# Altium schematic symbol library Resistor_0805.SchLib: 4 symbols
Pins are listed as number, name and electrical type; pins without a type are passive.

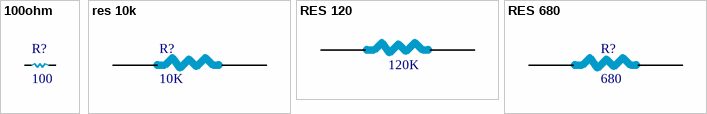
[diagram p0: symbols 100ohm to RES 680]

## 100ohm
designator R?, comment 100
RES SMD 100 OHM 1% 1/8W 0805; Brand: Yageo; Categories: Resistors; Resistance: 100 Ohms; Power Rating: 125 mW (1/8 W); Temperature Coefficient: 50 PPM / C; Voltage Rating: 150 V; Unit Weight: 0.000194 oz; Power (Watts): 0.25W, 1/4W; Case Code - in: 0805; Case Code - mm: 2012; Height: 0.5 mm; Length: 2 mm; ComponentLink1URL: http://www.yageo.com/NewPortal/yageodocoutput?fileName=/pdf/R-Chip/PYu-RT_1-to-0.05_RoHS_L_5.pdf; ComponentLink1Description: http://www.yageo.com/NewPortal/yageodocoutput?fileName=/pdf/R-Chip/PYu-RT_1-to-0.05_RoHS_L_5.pdf; ComponentLink2URL: http://www.mouser.com/ds/2/447/yageodocoutput-1125656.pdf; ComponentLink2Description: http://www.mouser.com/ds/2/447/yageodocoutput-1125656.pdf; ComponentLink3URL: http://www.farnell.com/datasheets/442970.pdf; ComponentLink3Description: http://www.farnell.com/datasheets/442970.pdf; Composition: Thick Film; Features: Automotive AEC-Q200, Pulse Withstanding; Height - Seated (Max): 0.022 (0.55mm); Failure Rate: -; Product Category: Thin Film Resistors; RoHS: True; Tolerance: 1 %; Series: RT; Packaging: Reel; Package / Case: 0805 (2012 metric); Product: Thin Film Resistors SMD; Termination Style: SMD/SMT; Type: High Precision, High Stability; Part Status: Active; Supplier Device Package: 0603; Size / Dimension: 0.063 L x 0.031 W (1.60mm x 0.80mm); Supplier 1: Digi-Key; Supplier Part Number 1: CRS0805AFX-1000ELFCT-ND; Manufacturer: Yageo; Operating Temperature Range: - 55 C to + 125 C
footprint RESC1005X04N (Chip Resistor, 2-Leads, Body 1.00x0.50mm, IPC Medium Density)
pins: 1, 2

## res 10k
designator R?, comment 10K
footprint RESC1005X04N (Chip Resistor, 2-Leads, Body 1.00x0.50mm, IPC Medium Density)
pins: 1, 2

## RES 120
designator R?, comment 120K
Manufacturer: Yageo; Manufacturer Part Number: SR0603FR-7T120RL; Categories: Tapes, Adhesives, Materials; Adhesive: Quick-Stick; Backing, Carrier: Polyethylene-Terephthalate (PET); Shelf Life Start: Date of Manufacture; Shelf Life: 24 Months; Series: 9629PC; Part Status: Active; Tape Type: Double Coated, Double Sided; Thickness: 0.0040 (4.0 mils, 0.102mm); Thickness - Adhesive: 0.0035 (3.5 mils, 0.089mm); Thickness - Backing, Carrier: 0.0005 (0.5 mils, 0.013mm); Width: 0.75 (19.05mm) 3/4; Length: 15 (4.6m) 5 yds; Color: Clear; Usage: -; Temperature Range: 200°F (93°C) Max; Supplier 1: Digi-Key; Supplier Part Number 1: 3/4-5-9629PC-ND; Stock 1: 0
footprint RESC1005X04N (Chip Resistor, 2-Leads, Body 1.00x0.50mm, IPC Medium Density)
pins: 1, 2

## RES 680
designator R?, comment 680
footprint RESC1005X04N (Chip Resistor, 2-Leads, Body 1.00x0.50mm, IPC Medium Density)
pins: 1, 2